# Altium schematic symbol library 217175-0001.SchLib: 1 symbol
Pins are listed as number, name and electrical type; pins without a type are passive.

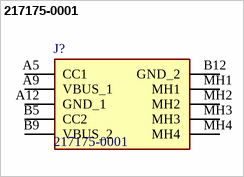
[diagram p0: symbol 217175-0001]

## 217175-0001
designator J?
Connector USB Type C Female 6Positions 0.5mm Right Angle SMT Embossed T/R - Tape and Reel; Manufacturer_Name: Molex; Geometry.Height: 3.46mm; Mouser Part Number: 538-217175-0001; Mouser Price/Stock: https://www.mouser.co.uk/ProductDetail/Molex/217175-0001?qs=DRkmTr78QARWJMiqNnldSg%3D%3D; Manufacturer_Part_Number: 217175-0001; Datasheet Link: https://www.molex.com/pdm_docs/sd/2171750001_sd.pdf
footprint 2171750001
pins: A5 CC1, A9 VBUS_1, A12 GND_1, B5 CC2, B9 VBUS_2, B12 GND_2, MH1, MH2, MH3, MH4